# Altium schematic symbol library ti-stellaris.SchLib: 1 symbol
Pins are listed as number, name and electrical type; pins without a type are passive.

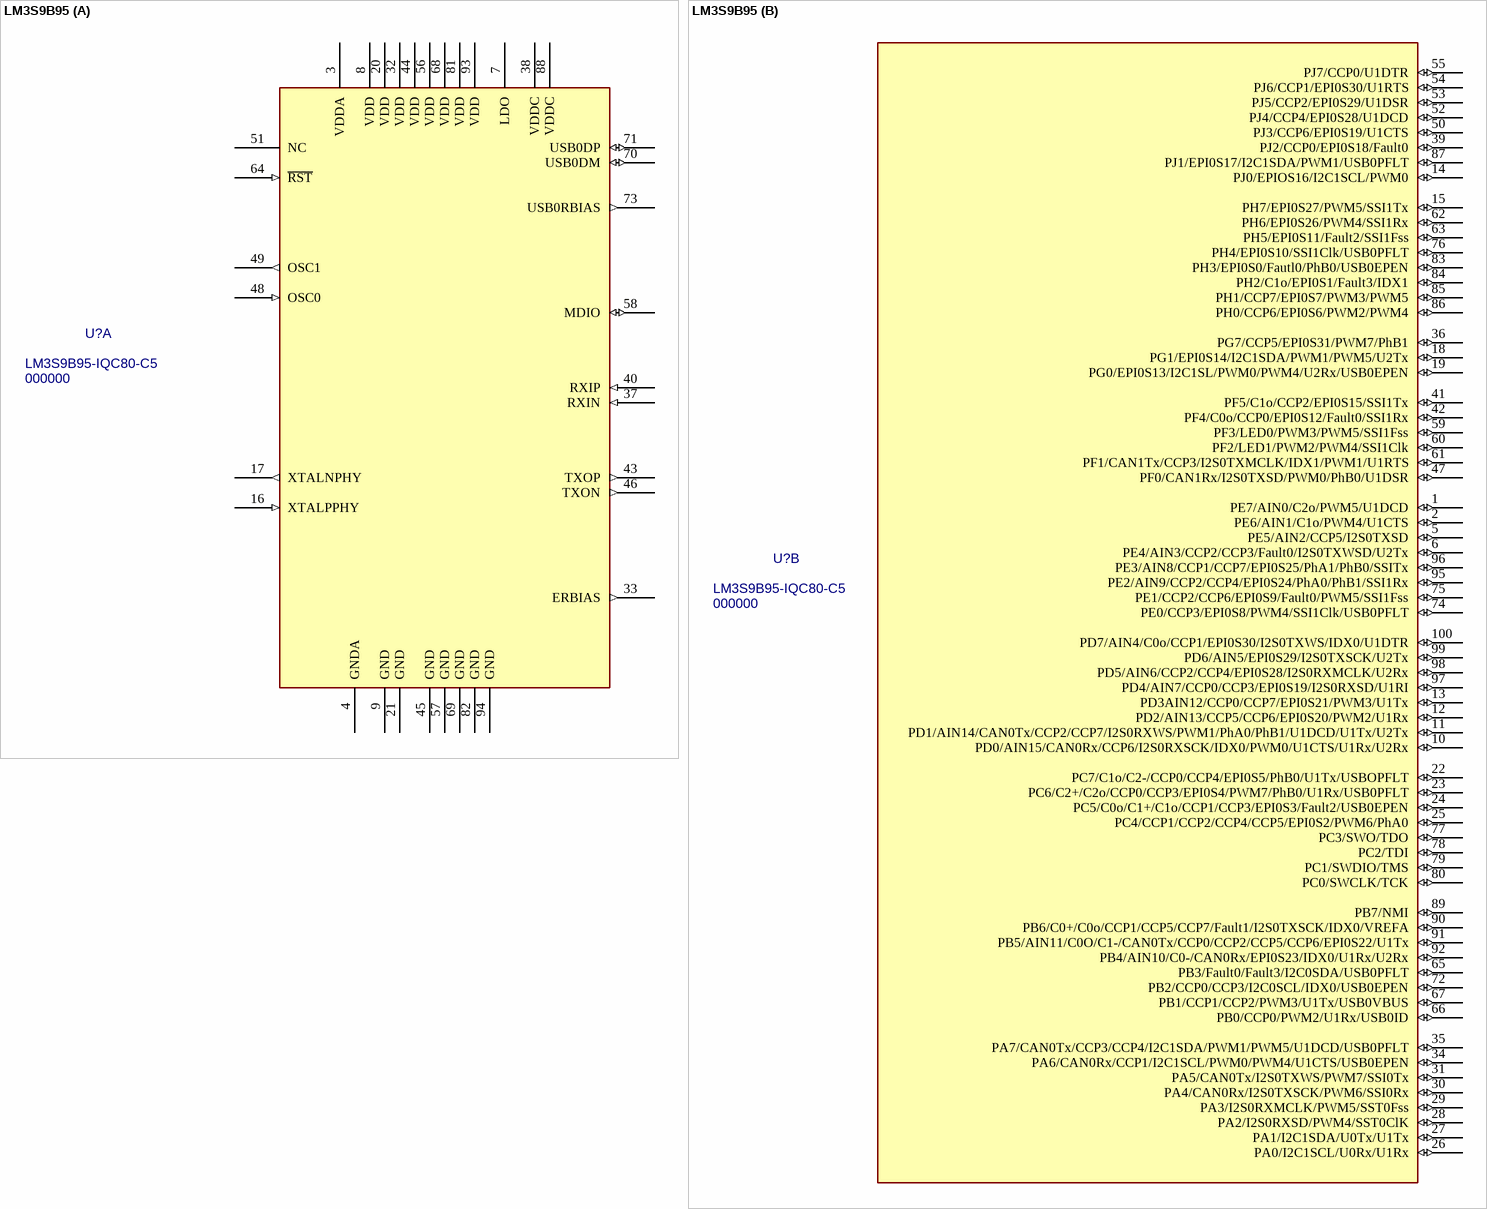
[diagram p0: symbol LM3S9B95]

## LM3S9B95
designator U?, comment 000000  value LM3S9B95-IQC80-C5
Stellaris LM3S9B95 Microcontroller; PN: 000000; Package: LQFP-100; ExtraInfo: *
footprint LQFP-100 (TSQFP, 100-Leads, Body 16.2x16.2mm (max), Pitch 0.50mm, IPC High Density)
part A pins: 3 VDDA (power), 4 GNDA (power), 7 LDO (power), 8 VDD (power), 9 GND (power), 16 XTALPPHY (in), 17 XTALNPHY (out), 20 VDD (power), 21 GND (power), 32 VDD (power), 33 ERBIAS (out), 37 RXIN (in), 38 VDDC (power), 40 RXIP (in), 43 TXOP (out), 44 VDD (power), 45 GND (power), 46 TXON (out), 48 OSC0 (in), 49 OSC1 (out), 51 NC, 56 VDD (power), 57 GND (power), 58 MDIO (io), 64 ~{RST} (in), 68 VDD (power), 69 GND (power), 70 USB0DM (io), 71 USB0DP (io), 73 USB0RBIAS (out), 81 VDD (power), 82 GND (power), 88 VDDC (power), 93 VDD (power), 94 GND (power)
part B pins: 1 PE7/AIN0/C2o/PWM5/U1DCD (io), 2 PE6/AIN1/C1o/PWM4/U1CTS (io), 5 PE5/AIN2/CCP5/I2S0TXSD (io), 6 PE4/AIN3/CCP2/CCP3/Fault0/I2S0TXWSD/U2Tx (io), 10 PD0/AIN15/CAN0Rx/CCP6/I2S0RXSCK/IDX0/PWM0/U1CTS/U1Rx/U2Rx (io), 11 PD1/AIN14/CAN0Tx/CCP2/CCP7/I2S0RXWS/PWM1/PhA0/PhB1/U1DCD/U1Tx/U2Tx (io), 12 PD2/AIN13/CCP5/CCP6/EPI0S20/PWM2/U1Rx (io), 13 PD3AIN12/CCP0/CCP7/EPI0S21/PWM3/U1Tx (io), 14 PJ0/EPIOS16/I2C1SCL/PWM0 (io), 15 PH7/EPI0S27/PWM5/SSI1Tx (io), 18 PG1/EPI0S14/I2C1SDA/PWM1/PWM5/U2Tx (io), 19 PG0/EPI0S13/I2C1SL/PWM0/PWM4/U2Rx/USB0EPEN (io), 22 PC7/C1o/C2-/CCP0/CCP4/EPI0S5/PhB0/U1Tx/USBOPFLT (io), 23 PC6/C2+/C2o/CCP0/CCP3/EPI0S4/PWM7/PhB0/U1Rx/USB0PFLT (io), 24 PC5/C0o/C1+/C1o/CCP1/CCP3/EPI0S3/Fault2/USB0EPEN (io), 25 PC4/CCP1/CCP2/CCP4/CCP5/EPI0S2/PWM6/PhA0 (io), 26 PA0/I2C1SCL/U0Rx/U1Rx (io), 27 PA1/I2C1SDA/U0Tx/U1Tx (io), 28 PA2/I2S0RXSD/PWM4/SST0ClK (io), 29 PA3/I2S0RXMCLK/PWM5/SST0Fss (io), 30 PA4/CAN0Rx/I2S0TXSCK/PWM6/SSI0Rx (io), 31 PA5/CAN0Tx/I2S0TXWS/PWM7/SSI0Tx (io), 34 PA6/CAN0Rx/CCP1/I2C1SCL/PWM0/PWM4/U1CTS/USB0EPEN (io), 35 PA7/CAN0Tx/CCP3/CCP4/I2C1SDA/PWM1/PWM5/U1DCD/USB0PFLT (io), 36 PG7/CCP5/EPI0S31/PWM7/PhB1 (io), 39 PJ2/CCP0/EPI0S18/Fault0 (io), 41 PF5/C1o/CCP2/EPI0S15/SSI1Tx (io), 42 PF4/C0o/CCP0/EPI0S12/Fault0/SSI1Rx (io), 47 PF0/CAN1Rx/I2S0TXSD/PWM0/PhB0/U1DSR (io), 50 PJ3/CCP6/EPI0S19/U1CTS (io), 52 PJ4/CCP4/EPI0S28/U1DCD (io), 53 PJ5/CCP2/EPI0S29/U1DSR (io), 54 PJ6/CCP1/EPI0S30/U1RTS (io), 55 PJ7/CCP0/U1DTR (io), 59 PF3/LED0/PWM3/PWM5/SSI1Fss (io), 60 PF2/LED1/PWM2/PWM4/SSI1Clk (io), 61 PF1/CAN1Tx/CCP3/I2S0TXMCLK/IDX1/PWM1/U1RTS (io), 62 PH6/EPI0S26/PWM4/SSI1Rx (io), 63 PH5/EPI0S11/Fault2/SSI1Fss (io), 65 PB3/Fault0/Fault3/I2C0SDA/USB0PFLT (io), 66 PB0/CCP0/PWM2/U1Rx/USB0ID (io), 67 PB1/CCP1/CCP2/PWM3/U1Tx/USB0VBUS (io), 72 PB2/CCP0/CCP3/I2C0SCL/IDX0/USB0EPEN (io), 74 PE0/CCP3/EPI0S8/PWM4/SSI1Clk/USB0PFLT (io), 75 PE1/CCP2/CCP6/EPI0S9/Fault0/PWM5/SSI1Fss (io), 76 PH4/EPI0S10/SSI1Clk/USB0PFLT (io), 77 PC3/SWO/TDO (io), 78 PC2/TDI (io), 79 PC1/SWDIO/TMS (io), 80 PC0/SWCLK/TCK (io), 83 PH3/EPI0S0/Fautl0/PhB0/USB0EPEN (io), 84 PH2/C1o/EPI0S1/Fault3/IDX1 (io), 85 PH1/CCP7/EPI0S7/PWM3/PWM5 (io), 86 PH0/CCP6/EPI0S6/PWM2/PWM4 (io), 87 PJ1/EPI0S17/I2C1SDA/PWM1/USB0PFLT (io), 89 PB7/NMI (io), 90 PB6/C0+/C0o/CCP1/CCP5/CCP7/Fault1/I2S0TXSCK/IDX0/VREFA (io), 91 PB5/AIN11/C0O/C1-/CAN0Tx/CCP0/CCP2/CCP5/CCP6/EPI0S22/U1Tx (io), 92 PB4/AIN10/C0-/CAN0Rx/EPI0S23/IDX0/U1Rx/U2Rx (io), 95 PE2/AIN9/CCP2/CCP4/EPI0S24/PhA0/PhB1/SSI1Rx (io), 96 PE3/AIN8/CCP1/CCP7/EPI0S25/PhA1/PhB0/SSITx (io), 97 PD4/AIN7/CCP0/CCP3/EPI0S19/I2S0RXSD/U1RI (io), 98 PD5/AIN6/CCP2/CCP4/EPI0S28/I2S0RXMCLK/U2Rx (io), 99 PD6/AIN5/EPI0S29/I2S0TXSCK/U2Tx (io), 100 PD7/AIN4/C0o/CCP1/EPI0S30/I2S0TXWS/IDX0/U1DTR (io)